# Altium footprint library LQFP32.PcbLib: 2 footprints
Each footprint in its own frame and in the unit in brackets; x right, y up, seen from the top. Pads: shape width x height; smd on the part's side, far side on the other; paste and mask are expansions set on the pad; w line width, h text height; cw(c..) or ccw(c..) is an arc to the next point about the centre after c.
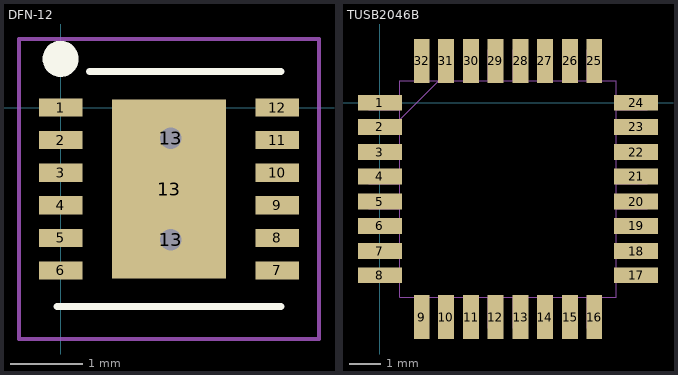
[diagram p0: the footprints below, top view; thin cyan lines are the x and y axes]

## DFN-12 [mm] "DFN, 12-Leads, Body 3,00x3,00mm, Pitch 0,45mm, Thermal Pad 1,58x2,48mm, IPC Medium Density"
height 0.75
pads (15):
  rect 0.6x0.25 smd: 1(0,0) 2(0,-0.45) 3(0,-0.9) 4(0,-1.35) 5(0,-1.8) 6(0,-2.25) 7(3,-2.25) 8(3,-1.8) 9(3,-1.35) 10(3,-0.9) 11(3,-0.45) 12(3,0)
  rect 1.58x2.48 smd: 13(1.5,-1.125)
  round 0.6 hole 0.3: 13(1.525,-1.825) 13(1.525,-0.425)
Top Overlay:
  circle w0.25: c0,0.675 r0.125
  lines w0.1: -0.05,-2.75 3.05,-2.75 ; 0.4,0.5 3.05,0.5
Mechanical 15:
  lines w0.05: -0.575,-3.2 3.575,-3.2 3.575,0.95 -0.575,0.95 -0.575,-3.2
  lines w0.1: 1,-1.125 2,-1.125 ; 1.5,-1.625 1.5,-0.625
3D body "DFN-12.step": height 0.75, standoff 0, extent -0.05,-2.625 3.05,0.375

## TUSB2046B [mil]
pads (32):
  rect 56x20 smd: 1(0,0) 2(0,-31) 3(0,-63) 4(0,-94) 5(0,-126) 6(0,-157) 7(0,-189) 8(0,-220) 17(326,-220) 18(326,-189) 19(326,-157) 20(326,-126) 21(326,-94) 22(326,-63) 23(326,-31) 24(326,0)
  rect 20x56 smd: 9(53,-273) 10(84,-273) 11(116,-273) 12(147,-273) 13(179,-273) 14(210,-273) 15(242,-273) 16(273,-273) 25(273,53) 26(242,53) 27(210,53) 28(179,53) 29(147,53) 30(116,53) 31(84,53) 32(53,53)
Mechanical 4:
  drawing of 266 lines, arcs and shapes, not listed
3D body "LQFP32-2.STEP": height 63.78, standoff -0.28, extent -16.6,-291.21 343.38,68.77